# Altium footprint library Battery holder_90deg.PcbLib: 1 footprints
Each footprint in its own frame and in the unit in brackets; x right, y up, seen from the top. Pads: shape width x height; smd on the part's side, far side on the other; paste and mask are expansions set on the pad; w line width, h text height; cw(c..) or ccw(c..) is an arc to the next point about the centre after c.
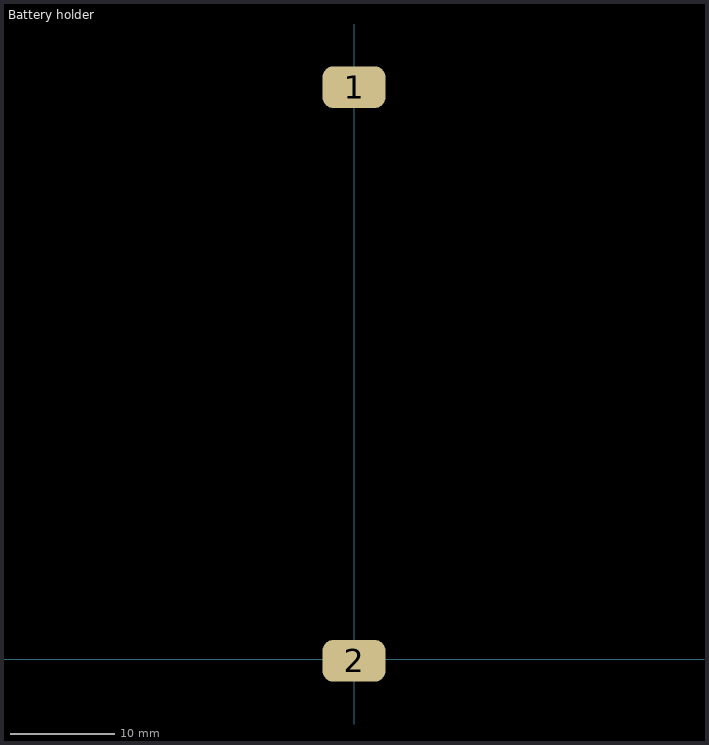
[diagram p0: the footprint, top view; thin cyan lines are the x and y axes]

## Battery holder [mm]
pads (2):
  rrect50% 6x4 smd: 1(0,54.737) 2(0,-0.127)
3D body "User Library-BAT_HLDR_BHAA-POL.STEP": height 8.8, standoff -7.71, extent -2.413,-2.159 21.982,56.769